# EAGLE library part 418117270906 (library 418117270906)
DIP Switches / SIP Switches WS-DITV DIP 6p THT 2.54mm Hrztl Box Source: Datasheet <https://ms.componentsearchengine.com/Datasheets/1/418117270906.pdf>
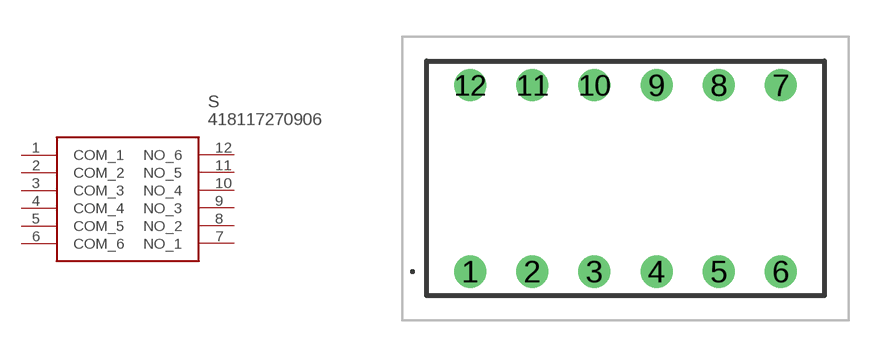
[diagram p0: symbol with the pads of 418117270906; footprint 418117270906]

Designator prefix S

## 418117270906 (Description: DIP Switches / SIP Switches WS-DITV DIP 6p THT 2.54mm Hrztl Box; Height: 6.55mm; Manufacturer_Name: Wurth Elektronik; Manufacturer_Part_Number: 418117270906; Mouser_Part_Number: 710-418117270906; Mouser_Price-Stock: https://www.mouser.co.uk/ProductDetail/Wurth-Elektronik/418117270906?qs=2kOmHSv6VfTTULWQkr3hYg%3D%3D)  [418117270906]
1  COM_1
2  COM_2
3  COM_3
4  COM_4
5  COM_5
6  COM_6
7  NO_1
8  NO_2
9  NO_3
10  NO_4
11  NO_5
12  NO_6

## Footprint 418117270906 (pad centres in mm)
418117270906-2
drill 0.8 pad 1.3: 1 0,0; 2 2.54,0; 3 5.08,0; 4 7.62,0; 5 10.16,0; 6 12.7,0; 7 12.7,7.62; 8 10.16,7.62; 9 7.62,7.62; 10 5.08,7.62; 11 2.54,7.62; 12 0,7.62